# Altium footprint library JST_XH254.PcbLib: 13 footprints
Each footprint in its own frame and in the unit in brackets; x right, y up, seen from the top. Pads: shape width x height; smd on the part's side, far side on the other; paste and mask are expansions set on the pad; w line width, h text height; cw(c..) or ccw(c..) is an arc to the next point about the centre after c.
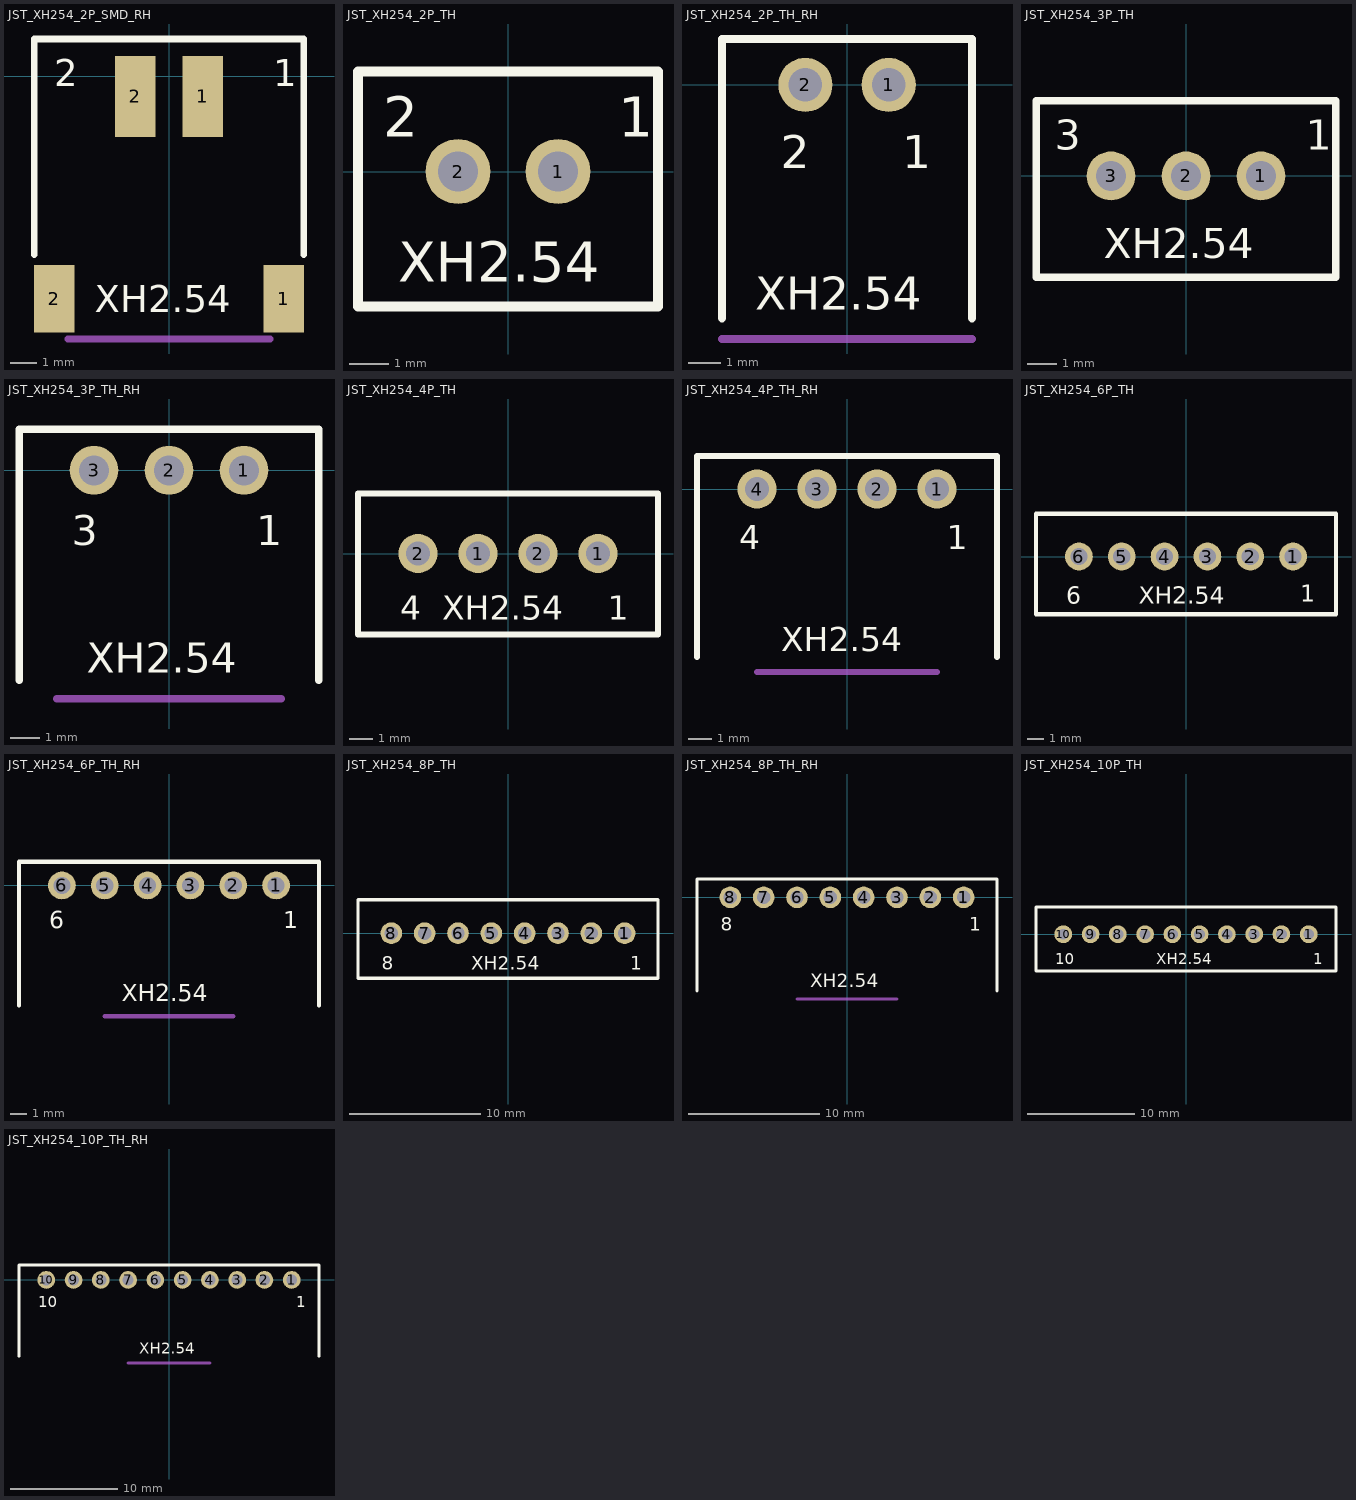
[diagram p0: the footprints below, top view; thin cyan lines are the x and y axes]

## JST_XH254_2P_SMD_RH [mil]
pads (4):
  rect 60x120 smd: 1(50,-30) 2(-50,-30)
  rect 60x100 smd: 1(170,-330) 2(-170,-330)
Top Overlay:
  lines w10: -200,-265 -200,55 200,55 200,-265
  text "1" at 155,-15 h40
  text "2" at -170,-15 h40
  text "XH2.54" at -110,-350 h40
Mechanical 1:
  lines w10: -150,-390 150,-390
  text "Board Edge" at -50,-375 h10
3D body "JST - XH - SMD (R) - 2Pin - 2.54mm.stp": height 233, standoff 0, extent -199.5,-390 199.5,0

## JST_XH254_2P_TH [mil]
pads (2):
  round 65 hole 40: 1(50,0) 2(-50,0)
Top Overlay:
  lines w10: -150,-135 -150,100 150,100 150,-135 -150,-135
  text "XH2.54" at -110,-110 h40
  text "1" at 110,35 h40
  text "2" at -125,35 h40
Mechanical 1:
  text "Board Edge \/" at -65,-160 h10
3D body "JST - XH - Thru (V) - 2Pin - 2.54mm.stp": height 284, standoff -118, extent -142,-132 142,98

## JST_XH254_2P_TH_RH [mil]
pads (2):
  round 65 hole 40: 1(50,0) 2(-50,0)
Top Overlay:
  lines w10: -150,-280 -150,55 150,55 150,-280
  text "1" at 66.17,-100 h40
  text "2" at -79.5,-100 h40
  text "XH2.54" at -110,-270 h40
Mechanical 1:
  lines w10: -150,-305 150,-305
  text "Board Edge" at -50,-290 h10
3D body "JST - XH - Thru (R) - 2Pin - 2.54mm.stp": height 230, standoff -133, extent -142,-306.6 142,9.8

## JST_XH254_3P_TH [mil]
pads (3):
  round 65 hole 40: 1(100,0) 2(0,0) 3(-100,0)
Top Overlay:
  lines w10: -200,-135 200,-135 200,100 -200,100 -200,-135
  text "1" at 160,35 h40
  text "3" at -175,35 h40
  text "XH2.54" at -110,-110 h40
Mechanical 1:
  text "Board Edge \/" at -65,-160 h10
3D body "JST - XH - Thru (V) - 3Pin - 2.54mm.stp": height 284, standoff -118, extent -192,-132 192,98

## JST_XH254_3P_TH_RH [mil]
pads (3):
  round 65 hole 40: 1(100,0) 2(0,0) 3(-100,0)
Top Overlay:
  lines w10: -200,-280 -200,55 200,55 200,-280
  text "1" at 116.17,-100 h40
  text "3" at -129.5,-100 h40
  text "XH2.54" at -110,-270 h40
Mechanical 1:
  lines w10: -150,-305 150,-305
  text "Board Edge" at -50,-290 h10
3D body "JST - XH - Thru (R) - 3Pin - 2.54mm.stp": height 230, standoff -133, extent -192,-306.6 192,9.8

## JST_XH254_4P_TH [mil]
pads (4):
  round 65 hole 40: 1(-50,0) 1(150,0) 2(-150,0) 2(50,0)
Top Overlay:
  lines w10: -250,-135 250,-135 250,100 -250,100 -250,-135
  text "XH2.54" at -110,-110 h40
  text "4" at -179.5,-110 h40
  text "1" at 166.17,-110 h40
Mechanical 1:
  text "Board Edge \/" at -65,-160 h10
3D body "JST - XH - Thru (V) - 4Pin - 2.54mm.stp": height 284, standoff -118, extent -242,-132 242,98

## JST_XH254_4P_TH_RH [mil]
pads (4):
  round 65 hole 40: 1(150,0) 2(50,0) 3(-50,0) 4(-150,0)
Top Overlay:
  lines w10: -250,-280 -250,55 250,55 250,-280
  text "XH2.54" at -110,-270 h40
  text "4" at -179.5,-100 h40
  text "1" at 166.17,-100 h40
Mechanical 1:
  lines w10: -150,-305 150,-305
  text "Board Edge" at -50,-290 h10
3D body "JST - XH - Thru (R) - 4Pin - 2.54mm.stp": height 230, standoff -133, extent -242,-306.6 242,9.8

## JST_XH254_6P_TH [mil]
pads (6):
  round 65 hole 40: 1(250,0) 2(150,0) 3(50,0) 4(-50,0) 5(-150,0) 6(-250,0)
Top Overlay:
  lines w10: -350,-135 350,-135 350,100 -350,100 -350,-135
  text "1" at 266.17,-105 h40
  text "6" at -279.5,-110 h40
  text "XH2.54" at -110,-110 h40
Mechanical 1:
  text "Board Edge \/" at -65,-160 h10
3D body "JST - XH - Thru (V) - 6Pin - 2.54mm.stp": height 284, standoff -118, extent -342,-132 342,98

## JST_XH254_6P_TH_RH [mil]
pads (6):
  round 65 hole 40: 1(250,0) 2(150,0) 3(50,0) 4(-50,0) 5(-150,0) 6(-250,0)
Top Overlay:
  lines w10: -350,-280 -350,55 350,55 350,-280
  text "1" at 266.17,-100 h40
  text "6" at -279.5,-100 h40
  text "XH2.54" at -110,-270 h40
Mechanical 1:
  lines w10: -150,-305 150,-305
  text "Board Edge" at -50,-290 h10
3D body "JST - XH - Thru (R) - 6Pin - 2.54mm.stp": height 230, standoff -133, extent -342,-306.6 342,9.8

## JST_XH254_8P_TH [mil]
pads (8):
  round 65 hole 40: 1(350,0) 2(250,0) 3(150,0) 4(50,0) 5(-50,0) 6(-150,0) 7(-250,0) 8(-350,0)
Top Overlay:
  lines w10: -450,-135 450,-135 450,100 -450,100 -450,-135
  text "XH2.54" at -110,-110 h40
  text "8" at -379.5,-110 h40
  text "1" at 366.17,-110 h40
Mechanical 1:
  text "Board Edge \/" at -65,-160 h10
3D body "JST - XH - Thru (V) - 8Pin - 2.54mm.stp": height 284, standoff -118, extent -442,-132 442,98

## JST_XH254_8P_TH_RH [mil]
pads (8):
  round 65 hole 40: 1(350,0) 2(250,0) 3(150,0) 4(50,0) 5(-50,0) 6(-150,0) 7(-250,0) 8(-350,0)
Top Overlay:
  lines w10: -450,-280 -450,55 450,55 450,-280
  text "XH2.54" at -110,-270 h40
  text "8" at -379.5,-100 h40
  text "1" at 366.17,-100 h40
Mechanical 1:
  lines w10: -150,-305 150,-305
  text "Board Edge" at -50,-290 h10
3D body "JST - XH - Thru (R) - 8Pin - 2.54mm.stp": height 230, standoff -133, extent -442,-306.6 442,9.8

## JST_XH254_10P_TH [mil]
pads (10):
  round 65 hole 40: 1(450,0) 2(350,0) 3(250,0) 4(150,0) 5(50,0) 6(-50,0) 7(-150,0) 8(-250,0) 9(-350,0) 10(-450,0)
Top Overlay:
  lines w10: -550,-135 -550,100 550,100 550,-135 -550,-135
  text "1" at 466.17,-110 h40
  text "10" at -479.5,-110 h40
  text "XH2.54" at -110,-110 h40
Mechanical 1:
  text "Board Edge \/" at -65,-160 h10
3D body "JST - XH - Thru (V) - 10Pin - 2.54mm.stp": height 284, standoff -118, extent -542,-132 542,98

## JST_XH254_10P_TH_RH [mil]
pads (10):
  round 65 hole 40: 1(450,0) 2(350,0) 3(250,0) 4(150,0) 5(50,0) 6(-50,0) 7(-150,0) 8(-250,0) 9(-350,0) 10(-450,0)
Top Overlay:
  lines w10: -550,-280 -550,55 550,55 550,-280
  text "10" at -479.5,-100 h40
  text "1" at 466.17,-100 h40
  text "XH2.54" at -110,-270 h40
Mechanical 1:
  lines w10: -150,-305 150,-305
  text "Board Edge" at -50,-290 h10
3D body "JST - XH - Thru (R) - 10Pin - 2.54mm.stp": height 230, standoff -133, extent -542,-306.6 542,9.8